# Altium schematic symbol library Display_Graphic.SchLib: 38 symbols
Pins are listed as number, name and electrical type; pins without a type are passive.

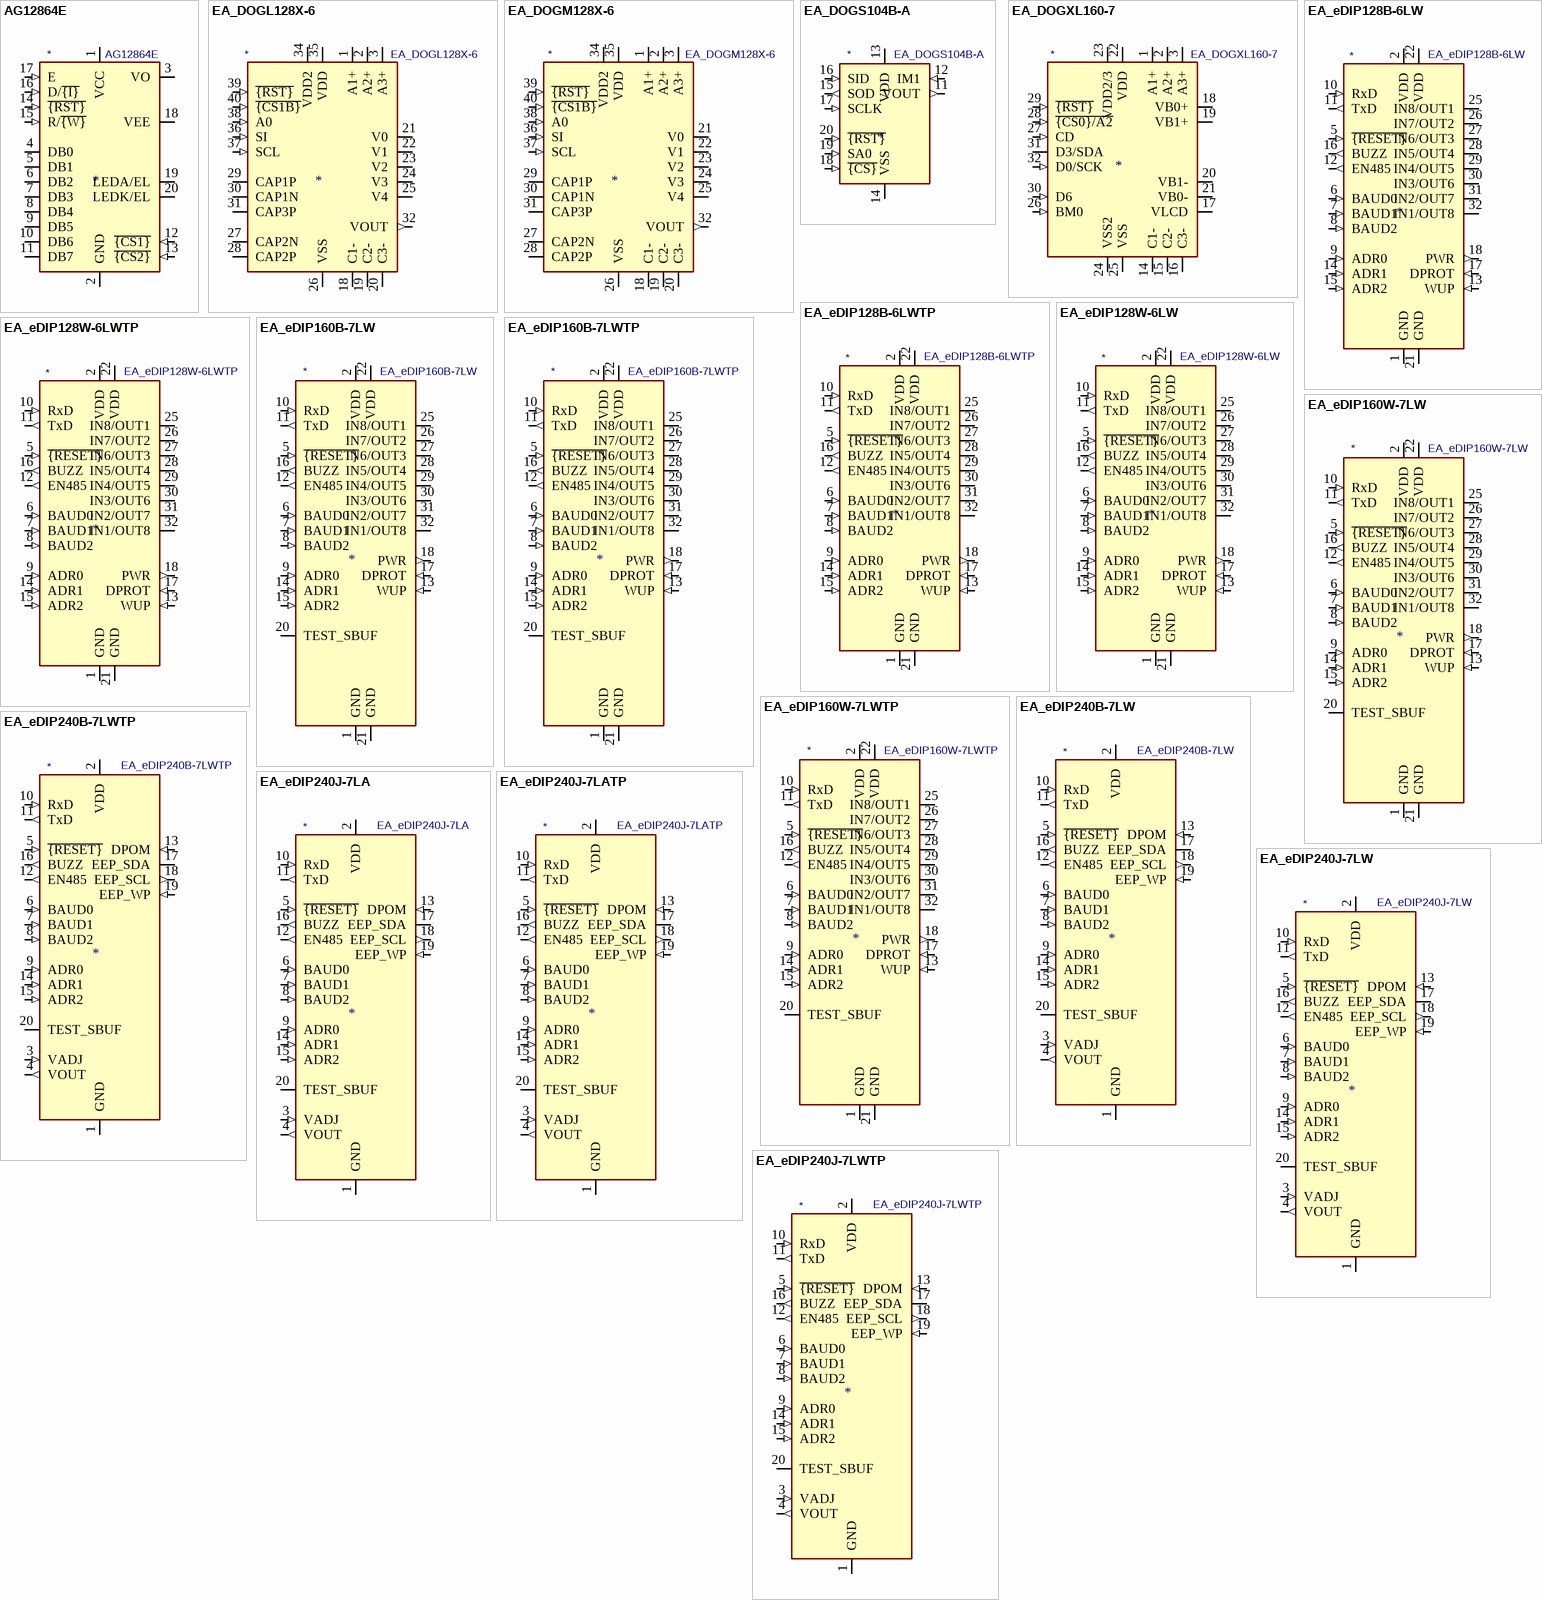
[diagram p0: symbols AG12864E to EA_eDIP240J-7LWTP]

## AG12864E
designator *  value AG12864E
ki_keywords: display LCD graphic; ki_description: Graphics Display 128x64px,  8b parallel, 1/64 Duty, 3.3V or 5V VDD; ki_fp_filters: *AG12864E*; Footprint: Display:AG12864E; Supplier: https://www.digchip.com/datasheets/parts/datasheet/1121/AG-12864E-pdf.php
footprint AG12864E
pins: 1 VCC (power), 2 GND (power), 3 VO, 4 DB0 (io), 5 DB1 (io), 6 DB2 (io), 7 DB3 (io), 8 DB4 (io), 9 DB5 (io), 10 DB6 (io), 11 DB7 (io), 12 ~{{CS1}} (in), 13 ~{{CS2}} (in), 14 ~{{RST}} (in), 15 R/~{{W}} (in), 16 D/~{{I}} (in), 17 E (in), 18 VEE, 19 LEDA/EL, 20 LEDK/EL

## EA_DOGL128X-6
designator *  value EA_DOGL128X-6
ki_keywords: display LCD graphic; ki_description: EA DOGL128X-6 Graphical Display 128x64 optional backlight SPI 3.0-3.3V; ki_fp_filters: EA*DOGL128*6*; Footprint: Display:EA_DOGL128-6; Supplier: https://www.lcd-module.com/eng/pdf/grafik/dogl128-6e.pdf
footprint EA_DOGL128-6
pins: 1 A1+ (power), 2 A2+ (power), 3 A3+ (power), 18 C1- (power), 19 C2- (power), 20 C3- (power), 21 V0, 22 V1, 23 V2, 24 V3, 25 V4, 26 VSS (power), 27 CAP2N, 28 CAP2P, 29 CAP1P, 30 CAP1N, 31 CAP3P, 32 VOUT (out), 33 VSS hidden, 34 VDD2 (power), 35 VDD (power), 36 SI (in), 37 SCL (in), 38 A0 (in), 39 ~{{RST}} (in), 40 ~{{CS1B}} (in)

## EA_DOGM128X-6
designator *  value EA_DOGM128X-6
ki_keywords: display LCD graphic; ki_description: EA DOGM128X-6 Graphical Display 128x64 optional backlight SPI 3.0-3.3V; ki_fp_filters: EA*DOGM128*6*; Footprint: Display:EA_DOGM128-6; Supplier: https://www.lcd-module.de/eng/pdf/grafik/dogm128e.pdf
footprint EA_DOGM128-6
pins: 1 A1+ (power), 2 A2+ (power), 3 A3+ (power), 18 C1- (power), 19 C2- (power), 20 C3- (power), 21 V0, 22 V1, 23 V2, 24 V3, 25 V4, 26 VSS (power), 27 CAP2N, 28 CAP2P, 29 CAP1P, 30 CAP1N, 31 CAP3P, 32 VOUT (out), 33 VSS hidden, 34 VDD2 (power), 35 VDD (power), 36 SI (in), 37 SCL (in), 38 A0 (in), 39 ~{{RST}} (in), 40 ~{{CS1B}} (in)

## EA_DOGS104B-A
designator *  value EA_DOGS104B-A
ki_keywords: display LCD graphic; ki_description: LCD 4x10 character display blue transmissive background, +3.3V VDD, I2C or SPI; ki_fp_filters: *EA*DOGS104*; Footprint: Display:EA_DOGS104X-A; Supplier: http://www.lcd-module.com/fileadmin/eng/pdf/doma/dogs104e.pdf
footprint EA_DOGS104X-A
pins: 1 NC (in) hidden, 2 NC (in) hidden, 9 NC (in) hidden, 10 NC (in) hidden, 11 VOUT (out), 12 IM1 (in), 13 VDD (power), 14 VSS (power), 15 SOD (out), 16 SID (in), 17 SCLK (in), 18 ~{{CS}} (in), 19 SA0 (in), 20 ~{{RST}} (in)

## EA_DOGXL160-7
designator *  value EA_DOGXL160-7
ki_keywords: display LCD graphic; ki_description: EA DOGXL160-7 Graphical Display 160x104 no back light I2C SPI 2.7-3.3V; ki_fp_filters: EA*DOGXL160*7*; Footprint: Display:EA_DOGXL160-7; Supplier: http://www.lcd-module.com/eng/pdf/grafik/dogxl160-7e.pdf
footprint EA_DOGXL160-7
pins: 1 A1+ (power), 2 A2+ (power), 3 A3+ (power), 14 C1- (power), 15 C2- (power), 16 C3- (power), 17 VLCD, 18 VB0+, 19 VB1+, 20 VB1-, 21 VB0-, 22 VDD (power), 23 VDD2/3 (power), 24 VSS2 (power), 25 VSS (power), 26 BM0 (in), 27 CD (in), 28 ~{{CS0}/A2} (in), 29 ~{{RST}} (in), 30 D6 (in), 31 D3/SDA (io), 32 D0/SCK (in)

## EA_eDIP128B-6LW
designator *  value EA_eDIP128B-6LW
ki_keywords: display LCD graphic; ki_description: LCD-graphical display with LED backlight blue negative, 3.3V - 5V VDD, RS-232. I2C or SPI; ki_fp_filters: *EA*eDIP128B*; Footprint: Display:EA-eDIP128B-XXX; Supplier: http://www.lcd-module.com/fileadmin/eng/pdf/grafik/edip128-6e.pdf
footprint EA-eDIP128B-XXX
pins: 1 GND (power), 2 VDD (power), 3 NC (in) hidden, 4 NC (in) hidden, 5 ~{{RESET}} (in), 6 BAUD0 (in), 7 BAUD1 (in), 8 BAUD2 (in), 9 ADR0 (in), 10 RxD (in), 11 TxD (out), 12 EN485 (out), 13 WUP (in), 14 ADR1 (in), 15 ADR2 (in), 16 BUZZ (out), 17 DPROT (in), 18 PWR (out), 19 NC (in) hidden, 21 GND (power), 22 VDD (power), 23 NC (in) hidden, 24 NC (in) hidden, 25 IN8/OUT1 (io), 26 IN7/OUT2 (io), 27 IN6/OUT3 (io), 28 IN5/OUT4 (io), 29 IN4/OUT5 (io), 30 IN3/OUT6 (io), 31 IN2/OUT7 (io), 32 IN1/OUT8 (io)

## EA_eDIP128B-6LWTP
designator *  value EA_eDIP128B-6LWTP
ki_keywords: display LCD graphic; ki_description: LCD-graphical display with LED backlight and touch panel blue negative, 3.3V - 5V VDD, RS-232. I2C or SPI; ki_fp_filters: *EA*eDIP128B*; Footprint: Display:EA-eDIP128B-XXX; Supplier: http://www.lcd-module.com/fileadmin/eng/pdf/grafik/edip128-6e.pdf
footprint EA-eDIP128B-XXX
pins: 1 GND (power), 2 VDD (power), 3 NC (in) hidden, 4 NC (in) hidden, 5 ~{{RESET}} (in), 6 BAUD0 (in), 7 BAUD1 (in), 8 BAUD2 (in), 9 ADR0 (in), 10 RxD (in), 11 TxD (out), 12 EN485 (out), 13 WUP (in), 14 ADR1 (in), 15 ADR2 (in), 16 BUZZ (out), 17 DPROT (in), 18 PWR (out), 19 NC (in) hidden, 21 GND (power), 22 VDD (power), 23 NC (in) hidden, 24 NC (in) hidden, 25 IN8/OUT1 (io), 26 IN7/OUT2 (io), 27 IN6/OUT3 (io), 28 IN5/OUT4 (io), 29 IN4/OUT5 (io), 30 IN3/OUT6 (io), 31 IN2/OUT7 (io), 32 IN1/OUT8 (io)

## EA_eDIP128W-6LW
designator *  value EA_eDIP128W-6LW
ki_keywords: display LCD graphic; ki_description: LCD-graphical display with LED backlight positive mode FSTN, 3.3V - 5V VDD, RS-232. I2C or SPI; ki_fp_filters: *EA*eDIP128B*; Footprint: Display:EA-eDIP128B-XXX; Supplier: http://www.lcd-module.com/fileadmin/eng/pdf/grafik/edip128-6e.pdf
footprint EA-eDIP128B-XXX
pins: 1 GND (power), 2 VDD (power), 3 NC (in) hidden, 4 NC (in) hidden, 5 ~{{RESET}} (in), 6 BAUD0 (in), 7 BAUD1 (in), 8 BAUD2 (in), 9 ADR0 (in), 10 RxD (in), 11 TxD (out), 12 EN485 (out), 13 WUP (in), 14 ADR1 (in), 15 ADR2 (in), 16 BUZZ (out), 17 DPROT (in), 18 PWR (out), 19 NC (in) hidden, 21 GND (power), 22 VDD (power), 23 NC (in) hidden, 24 NC (in) hidden, 25 IN8/OUT1 (io), 26 IN7/OUT2 (io), 27 IN6/OUT3 (io), 28 IN5/OUT4 (io), 29 IN4/OUT5 (io), 30 IN3/OUT6 (io), 31 IN2/OUT7 (io), 32 IN1/OUT8 (io)

## EA_eDIP128W-6LWTP
designator *  value EA_eDIP128W-6LWTP
ki_keywords: display LCD graphic; ki_description: LCD-graphical display with LED backlight and touch panel positive mode FSTN, 3.3V - 5V VDD, RS-232. I2C or SPI; ki_fp_filters: *EA*eDIP128B*; Footprint: Display:EA-eDIP128B-XXX; Supplier: http://www.lcd-module.com/fileadmin/eng/pdf/grafik/edip128-6e.pdf
footprint EA-eDIP128B-XXX
pins: 1 GND (power), 2 VDD (power), 3 NC (in) hidden, 4 NC (in) hidden, 5 ~{{RESET}} (in), 6 BAUD0 (in), 7 BAUD1 (in), 8 BAUD2 (in), 9 ADR0 (in), 10 RxD (in), 11 TxD (out), 12 EN485 (out), 13 WUP (in), 14 ADR1 (in), 15 ADR2 (in), 16 BUZZ (out), 17 DPROT (in), 18 PWR (out), 19 NC (in) hidden, 21 GND (power), 22 VDD (power), 23 NC (in) hidden, 24 NC (in) hidden, 25 IN8/OUT1 (io), 26 IN7/OUT2 (io), 27 IN6/OUT3 (io), 28 IN5/OUT4 (io), 29 IN4/OUT5 (io), 30 IN3/OUT6 (io), 31 IN2/OUT7 (io), 32 IN1/OUT8 (io)

## EA_eDIP160B-7LW
designator *  value EA_eDIP160B-7LW
ki_keywords: display LCD graphic; ki_description: LCD-graphical display 160x104 with LED backlight, blue negative, 3.3V - 5V VDD, RS-232, I2C or SPI; ki_fp_filters: *EA*eDIP160*; Footprint: Display:EA_eDIP160-XXX; Supplier: http://www.lcd-module.com/fileadmin/eng/pdf/grafik/edip160-7e.pdf
footprint EA_eDIP160-XXX
pins: 1 GND (power), 2 VDD (power), 3 NC (in) hidden, 4 NC (in) hidden, 5 ~{{RESET}} (in), 6 BAUD0 (in), 7 BAUD1 (in), 8 BAUD2 (in), 9 ADR0 (in), 10 RxD (in), 11 TxD (out), 12 EN485 (out), 13 WUP (in), 14 ADR1 (in), 15 ADR2 (in), 16 BUZZ (out), 17 DPROT (in), 18 PWR (out), 19 NC (in) hidden, 20 TEST_SBUF (oc), 21 GND (power), 22 VDD (power), 23 NC (in) hidden, 24 NC (in) hidden, 25 IN8/OUT1 (io), 26 IN7/OUT2 (io), 27 IN6/OUT3 (io), 28 IN5/OUT4 (io), 29 IN4/OUT5 (io), 30 IN3/OUT6 (io), 31 IN2/OUT7 (io), 32 IN1/OUT8 (io), 33 NC (in) hidden, 34 NC (in) hidden, 35 NC (in) hidden, 36 NC (in) hidden, 37 NC (in) hidden, 38 NC (in) hidden, 39 NC (in) hidden, 40 NC (in) hidden

## EA_eDIP160B-7LWTP
designator *  value EA_eDIP160B-7LWTP
ki_keywords: display LCD graphic; ki_description: LCD-graphical display 160x104 with LED backlight and touch panel, blue negative, 3.3V - 5V VDD, RS-232, I2C or SPI; ki_fp_filters: *EA*eDIP160*; Footprint: Display:EA_eDIP160-XXX; Supplier: http://www.lcd-module.com/fileadmin/eng/pdf/grafik/edip160-7e.pdf
footprint EA_eDIP160-XXX
pins: 1 GND (power), 2 VDD (power), 3 NC (in) hidden, 4 NC (in) hidden, 5 ~{{RESET}} (in), 6 BAUD0 (in), 7 BAUD1 (in), 8 BAUD2 (in), 9 ADR0 (in), 10 RxD (in), 11 TxD (out), 12 EN485 (out), 13 WUP (in), 14 ADR1 (in), 15 ADR2 (in), 16 BUZZ (out), 17 DPROT (in), 18 PWR (out), 19 NC (in) hidden, 20 TEST_SBUF (oc), 21 GND (power), 22 VDD (power), 23 NC (in) hidden, 24 NC (in) hidden, 25 IN8/OUT1 (io), 26 IN7/OUT2 (io), 27 IN6/OUT3 (io), 28 IN5/OUT4 (io), 29 IN4/OUT5 (io), 30 IN3/OUT6 (io), 31 IN2/OUT7 (io), 32 IN1/OUT8 (io), 33 NC (in) hidden, 34 NC (in) hidden, 35 NC (in) hidden, 36 NC (in) hidden, 37 NC (in) hidden, 38 NC (in) hidden, 39 NC (in) hidden, 40 NC (in) hidden

## EA_eDIP160W-7LW
designator *  value EA_eDIP160W-7LW
ki_keywords: display LCD graphic; ki_description: LCD-graphical display 160x104 with LED backlight, positive mode FSTN, 3.3V - 5V VDD, RS-232, I2C or SPI; ki_fp_filters: *EA*eDIP160*; Footprint: Display:EA_eDIP160-XXX; Supplier: http://www.lcd-module.com/fileadmin/eng/pdf/grafik/edip160-7e.pdf
footprint EA_eDIP160-XXX
pins: 1 GND (power), 2 VDD (power), 3 NC (in) hidden, 4 NC (in) hidden, 5 ~{{RESET}} (in), 6 BAUD0 (in), 7 BAUD1 (in), 8 BAUD2 (in), 9 ADR0 (in), 10 RxD (in), 11 TxD (out), 12 EN485 (out), 13 WUP (in), 14 ADR1 (in), 15 ADR2 (in), 16 BUZZ (out), 17 DPROT (in), 18 PWR (out), 19 NC (in) hidden, 20 TEST_SBUF (oc), 21 GND (power), 22 VDD (power), 23 NC (in) hidden, 24 NC (in) hidden, 25 IN8/OUT1 (io), 26 IN7/OUT2 (io), 27 IN6/OUT3 (io), 28 IN5/OUT4 (io), 29 IN4/OUT5 (io), 30 IN3/OUT6 (io), 31 IN2/OUT7 (io), 32 IN1/OUT8 (io), 33 NC (in) hidden, 34 NC (in) hidden, 35 NC (in) hidden, 36 NC (in) hidden, 37 NC (in) hidden, 38 NC (in) hidden, 39 NC (in) hidden, 40 NC (in) hidden

## EA_eDIP160W-7LWTP
designator *  value EA_eDIP160W-7LWTP
ki_keywords: display LCD graphic; ki_description: LCD-graphical display 160x104 with LED backlight and touch panel, positive mode FSTN, 3.3V - 5V VDD, RS-232, I2C or SPI; ki_fp_filters: *EA*eDIP160*; Footprint: Display:EA_eDIP160-XXX; Supplier: http://www.lcd-module.com/fileadmin/eng/pdf/grafik/edip160-7e.pdf
footprint EA_eDIP160-XXX
pins: 1 GND (power), 2 VDD (power), 3 NC (in) hidden, 4 NC (in) hidden, 5 ~{{RESET}} (in), 6 BAUD0 (in), 7 BAUD1 (in), 8 BAUD2 (in), 9 ADR0 (in), 10 RxD (in), 11 TxD (out), 12 EN485 (out), 13 WUP (in), 14 ADR1 (in), 15 ADR2 (in), 16 BUZZ (out), 17 DPROT (in), 18 PWR (out), 19 NC (in) hidden, 20 TEST_SBUF (oc), 21 GND (power), 22 VDD (power), 23 NC (in) hidden, 24 NC (in) hidden, 25 IN8/OUT1 (io), 26 IN7/OUT2 (io), 27 IN6/OUT3 (io), 28 IN5/OUT4 (io), 29 IN4/OUT5 (io), 30 IN3/OUT6 (io), 31 IN2/OUT7 (io), 32 IN1/OUT8 (io), 33 NC (in) hidden, 34 NC (in) hidden, 35 NC (in) hidden, 36 NC (in) hidden, 37 NC (in) hidden, 38 NC (in) hidden, 39 NC (in) hidden, 40 NC (in) hidden

## EA_eDIP240B-7LW
designator *  value EA_eDIP240B-7LW
ki_keywords: display LCD graphic; ki_description: LCD graphical display with white LED background blue negative, 240x128, +5V VDD, RS-232, I2C or SPI; ki_fp_filters: *EA*eDIP240*; Footprint: Display:EA_eDIP240-XXX; Supplier: http://www.lcd-module.com/fileadmin/eng/pdf/grafik/edip240-7e.pdf
footprint EA_eDIP240-XXX
pins: 1 GND (power), 2 VDD (power), 3 VADJ (in), 4 VOUT (out), 5 ~{{RESET}} (in), 6 BAUD0 (in), 7 BAUD1 (in), 8 BAUD2 (in), 9 ADR0 (in), 10 RxD (in), 11 TxD (out), 12 EN485 (out), 13 DPOM (in), 14 ADR1 (in), 15 ADR2 (in), 16 BUZZ (out), 17 EEP_SDA (io), 18 EEP_SCL (out), 19 EEP_WP (in), 20 TEST_SBUF (oc), 21 NC (in) hidden, 22 NC (in) hidden, 23 NC (in) hidden, 24 NC (in) hidden, 25 NC (in) hidden, 26 NC (in) hidden, 27 NC (in) hidden, 28 NC (in) hidden, 29 NC (in) hidden, 30 NC (in) hidden, 31 NC (in) hidden, 32 NC (in) hidden, 33 NC (in) hidden, 34 NC (in) hidden, 35 NC (in) hidden, 36 NC (in) hidden, 37 NC (in) hidden, 38 NC (in) hidden, 39 NC (in) hidden, 40 NC (in) hidden

## EA_eDIP240B-7LWTP
designator *  value EA_eDIP240B-7LWTP
ki_keywords: display LCD graphic; ki_description: LCD graphical display with white LED background and touch panel blue negative, 240x128, +5V VDD, RS-232, I2C or SPI; ki_fp_filters: *EA*eDIP240*; Footprint: Display:EA_eDIP240-XXX; Supplier: http://www.lcd-module.com/fileadmin/eng/pdf/grafik/edip240-7e.pdf
footprint EA_eDIP240-XXX
pins: 1 GND (power), 2 VDD (power), 3 VADJ (in), 4 VOUT (out), 5 ~{{RESET}} (in), 6 BAUD0 (in), 7 BAUD1 (in), 8 BAUD2 (in), 9 ADR0 (in), 10 RxD (in), 11 TxD (out), 12 EN485 (out), 13 DPOM (in), 14 ADR1 (in), 15 ADR2 (in), 16 BUZZ (out), 17 EEP_SDA (io), 18 EEP_SCL (out), 19 EEP_WP (in), 20 TEST_SBUF (oc), 21 NC (in) hidden, 22 NC (in) hidden, 23 NC (in) hidden, 24 NC (in) hidden, 25 NC (in) hidden, 26 NC (in) hidden, 27 NC (in) hidden, 28 NC (in) hidden, 29 NC (in) hidden, 30 NC (in) hidden, 31 NC (in) hidden, 32 NC (in) hidden, 33 NC (in) hidden, 34 NC (in) hidden, 35 NC (in) hidden, 36 NC (in) hidden, 37 NC (in) hidden, 38 NC (in) hidden, 39 NC (in) hidden, 40 NC (in) hidden

## EA_eDIP240J-7LA
designator *  value EA_eDIP240J-7LA
ki_keywords: display LCD graphic; ki_description: LCD graphical display with amber LED background blue positive mode FSTN 240x128, +5V VDD, RS-232, I2C or SPI; ki_fp_filters: *EA*eDIP240*; Footprint: Display:EA_eDIP240-XXX; Supplier: http://www.lcd-module.com/fileadmin/eng/pdf/grafik/edip240-7e.pdf
footprint EA_eDIP240-XXX
pins: 1 GND (power), 2 VDD (power), 3 VADJ (in), 4 VOUT (out), 5 ~{{RESET}} (in), 6 BAUD0 (in), 7 BAUD1 (in), 8 BAUD2 (in), 9 ADR0 (in), 10 RxD (in), 11 TxD (out), 12 EN485 (out), 13 DPOM (in), 14 ADR1 (in), 15 ADR2 (in), 16 BUZZ (out), 17 EEP_SDA (io), 18 EEP_SCL (out), 19 EEP_WP (in), 20 TEST_SBUF (oc), 21 NC (in) hidden, 22 NC (in) hidden, 23 NC (in) hidden, 24 NC (in) hidden, 25 NC (in) hidden, 26 NC (in) hidden, 27 NC (in) hidden, 28 NC (in) hidden, 29 NC (in) hidden, 30 NC (in) hidden, 31 NC (in) hidden, 32 NC (in) hidden, 33 NC (in) hidden, 34 NC (in) hidden, 35 NC (in) hidden, 36 NC (in) hidden, 37 NC (in) hidden, 38 NC (in) hidden, 39 NC (in) hidden, 40 NC (in) hidden

## EA_eDIP240J-7LATP
designator *  value EA_eDIP240J-7LATP
ki_keywords: display LCD graphic; ki_description: LCD graphical display with amber LED background and touch panel blue positive mode FSTN, 240x128, +5V VDD, RS-232, I2C or SPI; ki_fp_filters: *EA*eDIP240*; Footprint: Display:EA_eDIP240-XXX; Supplier: http://www.lcd-module.com/fileadmin/eng/pdf/grafik/edip240-7e.pdf
footprint EA_eDIP240-XXX
pins: 1 GND (power), 2 VDD (power), 3 VADJ (in), 4 VOUT (out), 5 ~{{RESET}} (in), 6 BAUD0 (in), 7 BAUD1 (in), 8 BAUD2 (in), 9 ADR0 (in), 10 RxD (in), 11 TxD (out), 12 EN485 (out), 13 DPOM (in), 14 ADR1 (in), 15 ADR2 (in), 16 BUZZ (out), 17 EEP_SDA (io), 18 EEP_SCL (out), 19 EEP_WP (in), 20 TEST_SBUF (oc), 21 NC (in) hidden, 22 NC (in) hidden, 23 NC (in) hidden, 24 NC (in) hidden, 25 NC (in) hidden, 26 NC (in) hidden, 27 NC (in) hidden, 28 NC (in) hidden, 29 NC (in) hidden, 30 NC (in) hidden, 31 NC (in) hidden, 32 NC (in) hidden, 33 NC (in) hidden, 34 NC (in) hidden, 35 NC (in) hidden, 36 NC (in) hidden, 37 NC (in) hidden, 38 NC (in) hidden, 39 NC (in) hidden, 40 NC (in) hidden

## EA_eDIP240J-7LW
designator *  value EA_eDIP240J-7LW
ki_keywords: display LCD graphic; ki_description: LCD graphical display with white LED background blue positive mode FSTN, 240x128, +5V VDD, RS-232, I2C or SPI; ki_fp_filters: *EA*eDIP240*; Footprint: Display:EA_eDIP240-XXX; Supplier: http://www.lcd-module.com/fileadmin/eng/pdf/grafik/edip240-7e.pdf
footprint EA_eDIP240-XXX
pins: 1 GND (power), 2 VDD (power), 3 VADJ (in), 4 VOUT (out), 5 ~{{RESET}} (in), 6 BAUD0 (in), 7 BAUD1 (in), 8 BAUD2 (in), 9 ADR0 (in), 10 RxD (in), 11 TxD (out), 12 EN485 (out), 13 DPOM (in), 14 ADR1 (in), 15 ADR2 (in), 16 BUZZ (out), 17 EEP_SDA (io), 18 EEP_SCL (out), 19 EEP_WP (in), 20 TEST_SBUF (oc), 21 NC (in) hidden, 22 NC (in) hidden, 23 NC (in) hidden, 24 NC (in) hidden, 25 NC (in) hidden, 26 NC (in) hidden, 27 NC (in) hidden, 28 NC (in) hidden, 29 NC (in) hidden, 30 NC (in) hidden, 31 NC (in) hidden, 32 NC (in) hidden, 33 NC (in) hidden, 34 NC (in) hidden, 35 NC (in) hidden, 36 NC (in) hidden, 37 NC (in) hidden, 38 NC (in) hidden, 39 NC (in) hidden, 40 NC (in) hidden

## EA_eDIP240J-7LWTP
designator *  value EA_eDIP240J-7LWTP
ki_keywords: display LCD graphic; ki_description: LCD graphical display with amber LED background blue positive mode FSTN, 240x128, +5V VDD, RS-232, I2C or SPI; ki_fp_filters: *EA*eDIP240*; Footprint: Display:EA_eDIP240-XXX; Supplier: http://www.lcd-module.com/fileadmin/eng/pdf/grafik/edip240-7e.pdf
footprint EA_eDIP240-XXX
pins: 1 GND (power), 2 VDD (power), 3 VADJ (in), 4 VOUT (out), 5 ~{{RESET}} (in), 6 BAUD0 (in), 7 BAUD1 (in), 8 BAUD2 (in), 9 ADR0 (in), 10 RxD (in), 11 TxD (out), 12 EN485 (out), 13 DPOM (in), 14 ADR1 (in), 15 ADR2 (in), 16 BUZZ (out), 17 EEP_SDA (io), 18 EEP_SCL (out), 19 EEP_WP (in), 20 TEST_SBUF (oc), 21 NC (in) hidden, 22 NC (in) hidden, 23 NC (in) hidden, 24 NC (in) hidden, 25 NC (in) hidden, 26 NC (in) hidden, 27 NC (in) hidden, 28 NC (in) hidden, 29 NC (in) hidden, 30 NC (in) hidden, 31 NC (in) hidden, 32 NC (in) hidden, 33 NC (in) hidden, 34 NC (in) hidden, 35 NC (in) hidden, 36 NC (in) hidden, 37 NC (in) hidden, 38 NC (in) hidden, 39 NC (in) hidden, 40 NC (in) hidden

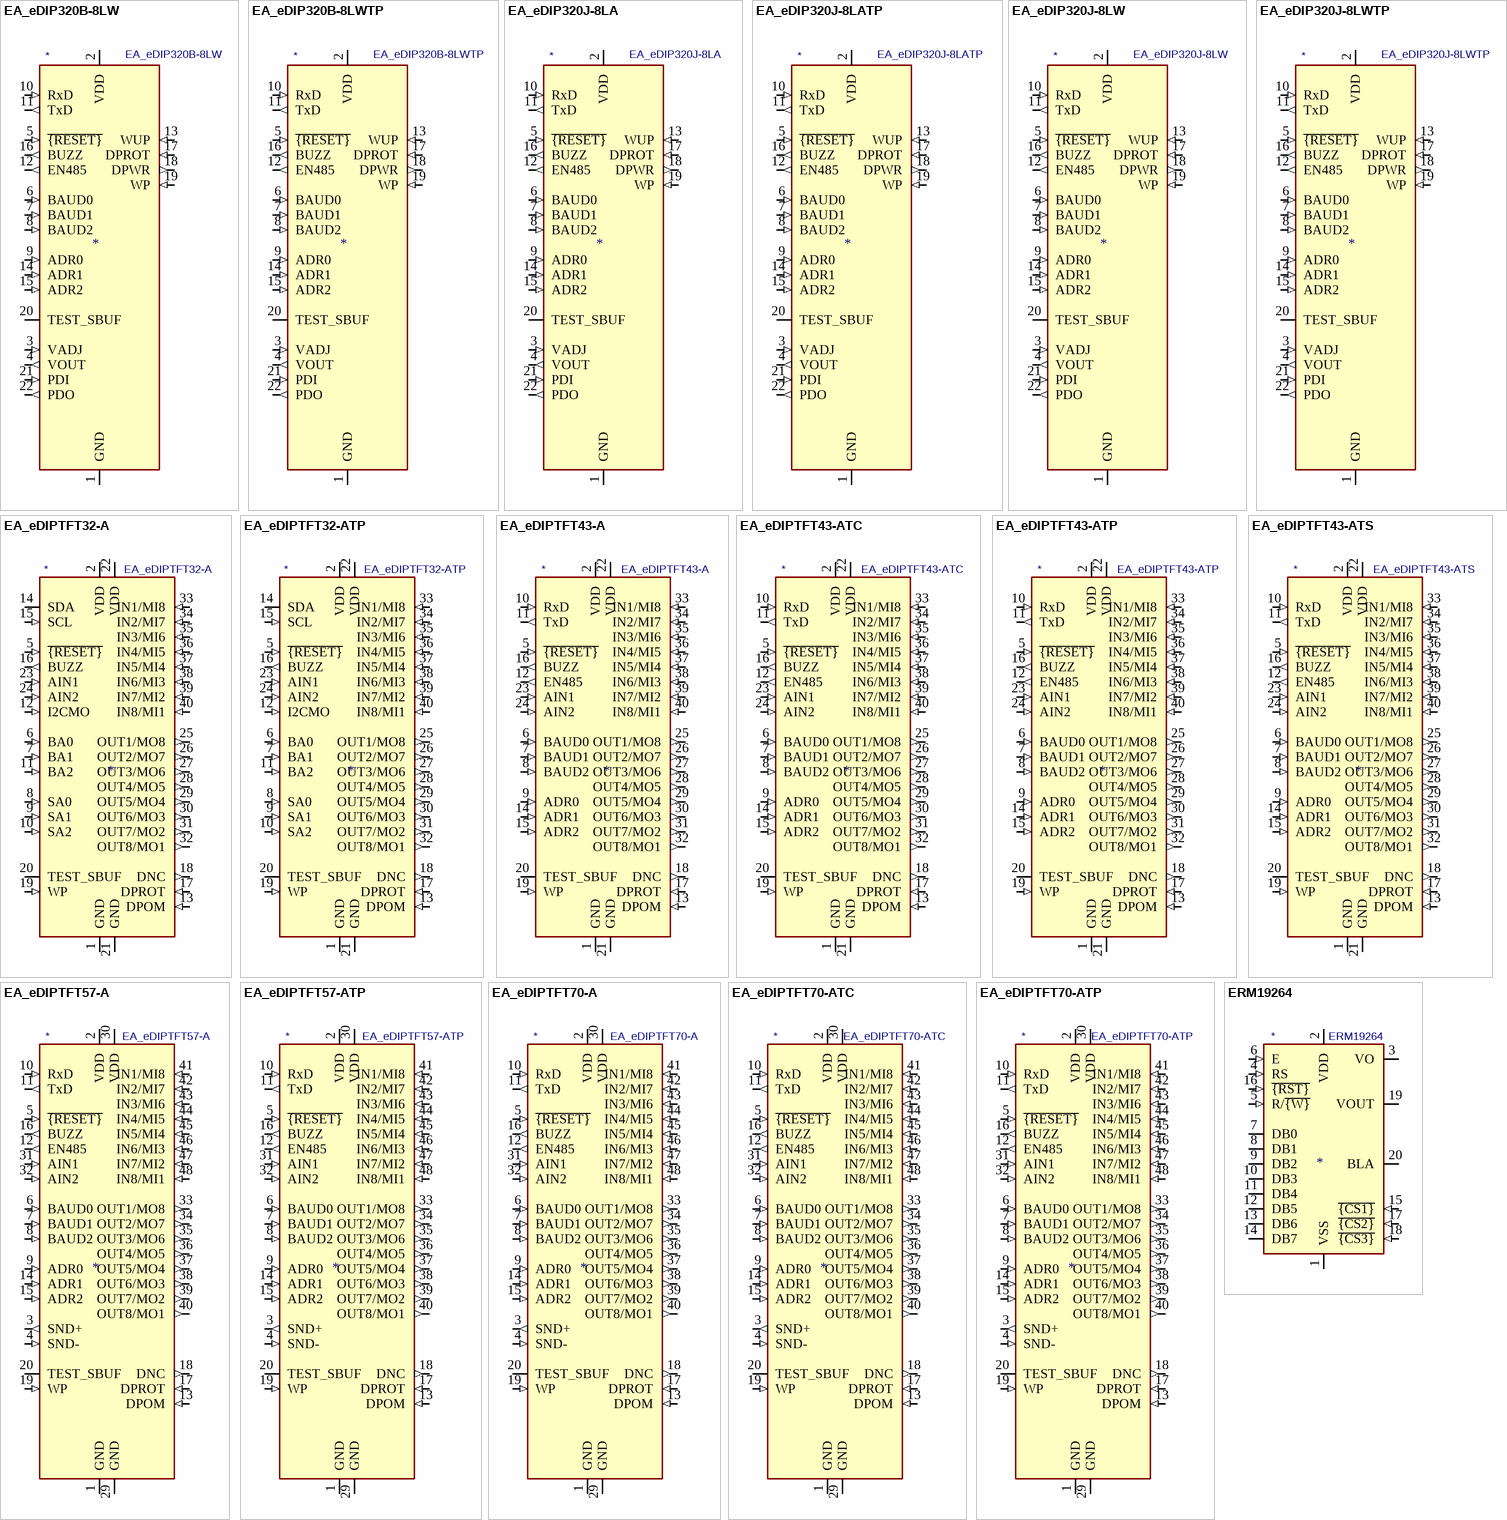
[diagram p1: symbols EA_eDIP320B-8LW to ERM19264]

## EA_eDIP320B-8LW
designator *  value EA_eDIP320B-8LW
ki_keywords: display LCD graphic; ki_description: LCD graphical display 320x240 white LED backlight blue negative, +5V VDD, RS-232, I2C or SPI; ki_fp_filters: *EA*eDIP320*; Footprint: Display:EA_eDIP320X-XXX; Supplier: http://www.lcd-module.com/fileadmin/eng/pdf/grafik/edip320-8e.pdf
footprint EA_eDIP320X-XXX
pins: 1 GND (power), 2 VDD (power), 3 VADJ (in), 4 VOUT (out), 5 ~{{RESET}} (in), 6 BAUD0 (in), 7 BAUD1 (in), 8 BAUD2 (in), 9 ADR0 (in), 10 RxD (in), 11 TxD (out), 12 EN485 (out), 13 WUP (in), 14 ADR1 (in), 15 ADR2 (in), 16 BUZZ (out), 17 DPROT (in), 18 DPWR (out), 19 WP (in), 20 TEST_SBUF (oc), 21 PDI (in), 22 PDO (out), 23 NC (in) hidden, 24 NC (in) hidden, 25 NC (in) hidden, 26 NC (in) hidden, 27 NC (in) hidden, 28 NC (in) hidden, 29 NC (in) hidden, 30 NC (in) hidden, 31 NC (in) hidden, 32 NC (in) hidden, 33 NC (in) hidden, 34 NC (in) hidden, 35 NC (in) hidden, 36 NC (in) hidden, 37 NC (in) hidden, 38 NC (in) hidden, 39 NC (in) hidden, 40 NC (in) hidden, 41 NC (in) hidden, 42 NC (in) hidden, 43 NC (in) hidden, 44 NC (in) hidden, 45 NC (in) hidden, 46 NC (in) hidden, 47 NC (in) hidden, 78 NC (in) hidden

## EA_eDIP320B-8LWTP
designator *  value EA_eDIP320B-8LWTP
ki_keywords: display LCD graphic; ki_description: LCD graphical display 320x240 white LED backlight with touch panel blue negative, +5V VDD, RS-232, I2C or SPI; ki_fp_filters: *EA*eDIP320*; Footprint: Display:EA_eDIP320X-XXX; Supplier: http://www.lcd-module.com/fileadmin/eng/pdf/grafik/edip320-8e.pdf
footprint EA_eDIP320X-XXX
pins: 1 GND (power), 2 VDD (power), 3 VADJ (in), 4 VOUT (out), 5 ~{{RESET}} (in), 6 BAUD0 (in), 7 BAUD1 (in), 8 BAUD2 (in), 9 ADR0 (in), 10 RxD (in), 11 TxD (out), 12 EN485 (out), 13 WUP (in), 14 ADR1 (in), 15 ADR2 (in), 16 BUZZ (out), 17 DPROT (in), 18 DPWR (out), 19 WP (in), 20 TEST_SBUF (oc), 21 PDI (in), 22 PDO (out), 23 NC (in) hidden, 24 NC (in) hidden, 25 NC (in) hidden, 26 NC (in) hidden, 27 NC (in) hidden, 28 NC (in) hidden, 29 NC (in) hidden, 30 NC (in) hidden, 31 NC (in) hidden, 32 NC (in) hidden, 33 NC (in) hidden, 34 NC (in) hidden, 35 NC (in) hidden, 36 NC (in) hidden, 37 NC (in) hidden, 38 NC (in) hidden, 39 NC (in) hidden, 40 NC (in) hidden, 41 NC (in) hidden, 42 NC (in) hidden, 43 NC (in) hidden, 44 NC (in) hidden, 45 NC (in) hidden, 46 NC (in) hidden, 47 NC (in) hidden, 78 NC (in) hidden

## EA_eDIP320J-8LA
designator *  value EA_eDIP320J-8LA
ki_keywords: display LCD graphic; ki_description: LCD graphical display 320x240 amber LED backlight blue positive FSTN, +5V VDD, RS-232, I2C or SPI; ki_fp_filters: *EA*eDIP320*; Footprint: Display:EA_eDIP320X-XXX; Supplier: http://www.lcd-module.com/fileadmin/eng/pdf/grafik/edip320-8e.pdf
footprint EA_eDIP320X-XXX
pins: 1 GND (power), 2 VDD (power), 3 VADJ (in), 4 VOUT (out), 5 ~{{RESET}} (in), 6 BAUD0 (in), 7 BAUD1 (in), 8 BAUD2 (in), 9 ADR0 (in), 10 RxD (in), 11 TxD (out), 12 EN485 (out), 13 WUP (in), 14 ADR1 (in), 15 ADR2 (in), 16 BUZZ (out), 17 DPROT (in), 18 DPWR (out), 19 WP (in), 20 TEST_SBUF (oc), 21 PDI (in), 22 PDO (out), 23 NC (in) hidden, 24 NC (in) hidden, 25 NC (in) hidden, 26 NC (in) hidden, 27 NC (in) hidden, 28 NC (in) hidden, 29 NC (in) hidden, 30 NC (in) hidden, 31 NC (in) hidden, 32 NC (in) hidden, 33 NC (in) hidden, 34 NC (in) hidden, 35 NC (in) hidden, 36 NC (in) hidden, 37 NC (in) hidden, 38 NC (in) hidden, 39 NC (in) hidden, 40 NC (in) hidden, 41 NC (in) hidden, 42 NC (in) hidden, 43 NC (in) hidden, 44 NC (in) hidden, 45 NC (in) hidden, 46 NC (in) hidden, 47 NC (in) hidden, 78 NC (in) hidden

## EA_eDIP320J-8LATP
designator *  value EA_eDIP320J-8LATP
ki_keywords: display LCD graphic; ki_description: LCD graphical display 320x240 amber LED backlight with touch panel blue positive mode FSTN, +5V VDD, RS-232, I2C or SPI; ki_fp_filters: *EA*eDIP320*; Footprint: Display:EA_eDIP320X-XXX; Supplier: http://www.lcd-module.com/fileadmin/eng/pdf/grafik/edip320-8e.pdf
footprint EA_eDIP320X-XXX
pins: 1 GND (power), 2 VDD (power), 3 VADJ (in), 4 VOUT (out), 5 ~{{RESET}} (in), 6 BAUD0 (in), 7 BAUD1 (in), 8 BAUD2 (in), 9 ADR0 (in), 10 RxD (in), 11 TxD (out), 12 EN485 (out), 13 WUP (in), 14 ADR1 (in), 15 ADR2 (in), 16 BUZZ (out), 17 DPROT (in), 18 DPWR (out), 19 WP (in), 20 TEST_SBUF (oc), 21 PDI (in), 22 PDO (out), 23 NC (in) hidden, 24 NC (in) hidden, 25 NC (in) hidden, 26 NC (in) hidden, 27 NC (in) hidden, 28 NC (in) hidden, 29 NC (in) hidden, 30 NC (in) hidden, 31 NC (in) hidden, 32 NC (in) hidden, 33 NC (in) hidden, 34 NC (in) hidden, 35 NC (in) hidden, 36 NC (in) hidden, 37 NC (in) hidden, 38 NC (in) hidden, 39 NC (in) hidden, 40 NC (in) hidden, 41 NC (in) hidden, 42 NC (in) hidden, 43 NC (in) hidden, 44 NC (in) hidden, 45 NC (in) hidden, 46 NC (in) hidden, 47 NC (in) hidden, 78 NC (in) hidden

## EA_eDIP320J-8LW
designator *  value EA_eDIP320J-8LW
ki_keywords: display LCD graphic; ki_description: LCD graphical display 320x240 white LED backlight blue positive mode FSTN, +5V VDD, RS-232, I2C or SPI; ki_fp_filters: *EA*eDIP320*; Footprint: Display:EA_eDIP320X-XXX; Supplier: http://www.lcd-module.com/fileadmin/eng/pdf/grafik/edip320-8e.pdf
footprint EA_eDIP320X-XXX
pins: 1 GND (power), 2 VDD (power), 3 VADJ (in), 4 VOUT (out), 5 ~{{RESET}} (in), 6 BAUD0 (in), 7 BAUD1 (in), 8 BAUD2 (in), 9 ADR0 (in), 10 RxD (in), 11 TxD (out), 12 EN485 (out), 13 WUP (in), 14 ADR1 (in), 15 ADR2 (in), 16 BUZZ (out), 17 DPROT (in), 18 DPWR (out), 19 WP (in), 20 TEST_SBUF (oc), 21 PDI (in), 22 PDO (out), 23 NC (in) hidden, 24 NC (in) hidden, 25 NC (in) hidden, 26 NC (in) hidden, 27 NC (in) hidden, 28 NC (in) hidden, 29 NC (in) hidden, 30 NC (in) hidden, 31 NC (in) hidden, 32 NC (in) hidden, 33 NC (in) hidden, 34 NC (in) hidden, 35 NC (in) hidden, 36 NC (in) hidden, 37 NC (in) hidden, 38 NC (in) hidden, 39 NC (in) hidden, 40 NC (in) hidden, 41 NC (in) hidden, 42 NC (in) hidden, 43 NC (in) hidden, 44 NC (in) hidden, 45 NC (in) hidden, 46 NC (in) hidden, 47 NC (in) hidden, 78 NC (in) hidden

## EA_eDIP320J-8LWTP
designator *  value EA_eDIP320J-8LWTP
ki_keywords: display LCD graphic; ki_description: LCD graphical display 320x240 white LED backlight with touch panel blue positive mode FSTN, +5V VDD, RS-232, I2C or SPI; ki_fp_filters: *EA*eDIP320*; Footprint: Display:EA_eDIP320X-XXX; Supplier: http://www.lcd-module.com/fileadmin/eng/pdf/grafik/edip320-8e.pdf
footprint EA_eDIP320X-XXX
pins: 1 GND (power), 2 VDD (power), 3 VADJ (in), 4 VOUT (out), 5 ~{{RESET}} (in), 6 BAUD0 (in), 7 BAUD1 (in), 8 BAUD2 (in), 9 ADR0 (in), 10 RxD (in), 11 TxD (out), 12 EN485 (out), 13 WUP (in), 14 ADR1 (in), 15 ADR2 (in), 16 BUZZ (out), 17 DPROT (in), 18 DPWR (out), 19 WP (in), 20 TEST_SBUF (oc), 21 PDI (in), 22 PDO (out), 23 NC (in) hidden, 24 NC (in) hidden, 25 NC (in) hidden, 26 NC (in) hidden, 27 NC (in) hidden, 28 NC (in) hidden, 29 NC (in) hidden, 30 NC (in) hidden, 31 NC (in) hidden, 32 NC (in) hidden, 33 NC (in) hidden, 34 NC (in) hidden, 35 NC (in) hidden, 36 NC (in) hidden, 37 NC (in) hidden, 38 NC (in) hidden, 39 NC (in) hidden, 40 NC (in) hidden, 41 NC (in) hidden, 42 NC (in) hidden, 43 NC (in) hidden, 44 NC (in) hidden, 45 NC (in) hidden, 46 NC (in) hidden, 47 NC (in) hidden, 78 NC (in) hidden

## EA_eDIPTFT32-A
designator *  value EA_eDIPTFT32-A
ki_keywords: display TFT LCD graphic; ki_description: TFT graphical display, 320x240, 16 bit colour, LED backlight, 3.3V - 5V VDD, RS-232, I2C or SPI; ki_fp_filters: *EA*eDIPTFT32*; Footprint: Display:EA_eDIPTFT32-XXX; Supplier: http://www.lcd-module.com/fileadmin/eng/pdf/grafik/ediptft43-ae.pdf
footprint EA_eDIPTFT32-XXX
pins: 1 GND (power), 2 VDD (power), 3 NC (in) hidden, 4 NC (in) hidden, 5 ~{{RESET}} (in), 6 BA0 (in), 7 BA1 (in), 8 SA0 (in), 9 SA1 (in), 10 SA2 (in), 11 BA2 (in), 12 I2CMO (in), 13 DPOM (in), 14 SDA (io), 15 SCL (in), 16 BUZZ (out), 17 DPROT (in), 18 DNC (out), 19 WP (in), 20 TEST_SBUF (io), 21 GND (power), 22 VDD (power), 23 AIN1 (in), 24 AIN2 (in), 25 OUT1/MO8 (out), 26 OUT2/MO7 (out), 27 OUT3/MO6 (out), 28 OUT4/MO5 (out), 29 OUT5/MO4 (out), 30 OUT6/MO3 (out), 31 OUT7/MO2 (out), 32 OUT8/MO1 (out), 33 IN1/MI8 (in), 34 IN2/MI7 (in), 35 IN3/MI6 (in), 36 IN4/MI5 (in), 37 IN5/MI4 (in), 38 IN6/MI3 (in), 39 IN7/MI2 (in), 40 IN8/MI1 (in)

## EA_eDIPTFT32-ATP
designator *  value EA_eDIPTFT32-ATP
ki_keywords: display TFT LCD graphic; ki_description: TFT graphical display with touch panel, 320x240, 16 bit colour, LED backlight, 3.3V - 5V VDD, RS-232, I2C or SPI; ki_fp_filters: *EA*eDIPTFT32*; Footprint: Display:EA_eDIPTFT32-XXX; Supplier: http://www.lcd-module.com/fileadmin/eng/pdf/grafik/ediptft43-ae.pdf
footprint EA_eDIPTFT32-XXX
pins: 1 GND (power), 2 VDD (power), 3 NC (in) hidden, 4 NC (in) hidden, 5 ~{{RESET}} (in), 6 BA0 (in), 7 BA1 (in), 8 SA0 (in), 9 SA1 (in), 10 SA2 (in), 11 BA2 (in), 12 I2CMO (in), 13 DPOM (in), 14 SDA (io), 15 SCL (in), 16 BUZZ (out), 17 DPROT (in), 18 DNC (out), 19 WP (in), 20 TEST_SBUF (io), 21 GND (power), 22 VDD (power), 23 AIN1 (in), 24 AIN2 (in), 25 OUT1/MO8 (out), 26 OUT2/MO7 (out), 27 OUT3/MO6 (out), 28 OUT4/MO5 (out), 29 OUT5/MO4 (out), 30 OUT6/MO3 (out), 31 OUT7/MO2 (out), 32 OUT8/MO1 (out), 33 IN1/MI8 (in), 34 IN2/MI7 (in), 35 IN3/MI6 (in), 36 IN4/MI5 (in), 37 IN5/MI4 (in), 38 IN6/MI3 (in), 39 IN7/MI2 (in), 40 IN8/MI1 (in)

## EA_eDIPTFT43-A
designator *  value EA_eDIPTFT43-A
ki_keywords: display TFT LCD graphic; ki_description: TFT graphical display, 480x272, 16 bit colour, LED backlight, 5V VDD, RS-232, I2C or SPI; ki_fp_filters: EA*eDIPTFT43*XXX*; Footprint: Display:EA_eDIPTFT43-XXX; Supplier: http://www.lcd-module.com/fileadmin/eng/pdf/grafik/ediptft43-ae.pdf
footprint EA_eDIPTFT43-XXX
pins: 1 GND (power), 2 VDD (power), 3 NC (in) hidden, 4 NC (in) hidden, 5 ~{{RESET}} (in), 6 BAUD0 (in), 7 BAUD1 (in), 8 BAUD2 (in), 9 ADR0 (in), 10 RxD (in), 11 TxD (out), 12 EN485 (out), 13 DPOM (in), 14 ADR1 (in), 15 ADR2 (in), 16 BUZZ (out), 17 DPROT (in), 18 DNC (out), 19 WP (in), 20 TEST_SBUF (io), 21 GND (power), 22 VDD (power), 23 AIN1 (in), 24 AIN2 (in), 25 OUT1/MO8 (out), 26 OUT2/MO7 (out), 27 OUT3/MO6 (out), 28 OUT4/MO5 (out), 29 OUT5/MO4 (out), 30 OUT6/MO3 (out), 31 OUT7/MO2 (out), 32 OUT8/MO1 (out), 33 IN1/MI8 (in), 34 IN2/MI7 (in), 35 IN3/MI6 (in), 36 IN4/MI5 (in), 37 IN5/MI4 (in), 38 IN6/MI3 (in), 39 IN7/MI2 (in), 40 IN8/MI1 (in)

## EA_eDIPTFT43-ATC
designator *  value EA_eDIPTFT43-ATC
ki_keywords: display TFT LCD graphic; ki_description: TFT graphical display, 480x272, 16 bit colour, LED backlight, 5V VDD, RS-232, I2C or SPI; ki_fp_filters: EA*eDIPTFT43*ATC*; Footprint: Display:EA_eDIPTFT43-ATC; Supplier: http://www.lcd-module.com/fileadmin/eng/pdf/grafik/ediptft43-ae.pdf
footprint EA_eDIPTFT43-ATC
pins: 1 GND (power), 2 VDD (power), 3 NC (in) hidden, 4 NC (in) hidden, 5 ~{{RESET}} (in), 6 BAUD0 (in), 7 BAUD1 (in), 8 BAUD2 (in), 9 ADR0 (in), 10 RxD (in), 11 TxD (out), 12 EN485 (out), 13 DPOM (in), 14 ADR1 (in), 15 ADR2 (in), 16 BUZZ (out), 17 DPROT (in), 18 DNC (out), 19 WP (in), 20 TEST_SBUF (io), 21 GND (power), 22 VDD (power), 23 AIN1 (in), 24 AIN2 (in), 25 OUT1/MO8 (out), 26 OUT2/MO7 (out), 27 OUT3/MO6 (out), 28 OUT4/MO5 (out), 29 OUT5/MO4 (out), 30 OUT6/MO3 (out), 31 OUT7/MO2 (out), 32 OUT8/MO1 (out), 33 IN1/MI8 (in), 34 IN2/MI7 (in), 35 IN3/MI6 (in), 36 IN4/MI5 (in), 37 IN5/MI4 (in), 38 IN6/MI3 (in), 39 IN7/MI2 (in), 40 IN8/MI1 (in)

## EA_eDIPTFT43-ATP
designator *  value EA_eDIPTFT43-ATP
ki_keywords: display TFT LCD graphic; ki_description: TFT graphical display with resistive touch panel, 480x272, 16 bit colour, LED backlight, 5V VDD, RS-232, I2C or SPI; ki_fp_filters: EA*eDIPTFT43*XXX*; Footprint: Display:EA_eDIPTFT43-XXX; Supplier: http://www.lcd-module.com/fileadmin/eng/pdf/grafik/ediptft43-ae.pdf
footprint EA_eDIPTFT43-XXX
pins: 1 GND (power), 2 VDD (power), 3 NC (in) hidden, 4 NC (in) hidden, 5 ~{{RESET}} (in), 6 BAUD0 (in), 7 BAUD1 (in), 8 BAUD2 (in), 9 ADR0 (in), 10 RxD (in), 11 TxD (out), 12 EN485 (out), 13 DPOM (in), 14 ADR1 (in), 15 ADR2 (in), 16 BUZZ (out), 17 DPROT (in), 18 DNC (out), 19 WP (in), 20 TEST_SBUF (io), 21 GND (power), 22 VDD (power), 23 AIN1 (in), 24 AIN2 (in), 25 OUT1/MO8 (out), 26 OUT2/MO7 (out), 27 OUT3/MO6 (out), 28 OUT4/MO5 (out), 29 OUT5/MO4 (out), 30 OUT6/MO3 (out), 31 OUT7/MO2 (out), 32 OUT8/MO1 (out), 33 IN1/MI8 (in), 34 IN2/MI7 (in), 35 IN3/MI6 (in), 36 IN4/MI5 (in), 37 IN5/MI4 (in), 38 IN6/MI3 (in), 39 IN7/MI2 (in), 40 IN8/MI1 (in)

## EA_eDIPTFT43-ATS
designator *  value EA_eDIPTFT43-ATS
ki_keywords: display TFT LCD graphic; ki_description: TFT graphical display with capacitive touch panel, 480x272, 16 bit colour, LED backlight, 5V VDD, RS-232, I2C or SPI; ki_fp_filters: EA*eDIPTFT43*XXX*; Footprint: Display:EA_eDIPTFT43-XXX; Supplier: http://www.lcd-module.com/fileadmin/eng/pdf/grafik/ediptft43-ae.pdf
footprint EA_eDIPTFT43-XXX
pins: 1 GND (power), 2 VDD (power), 3 NC (in) hidden, 4 NC (in) hidden, 5 ~{{RESET}} (in), 6 BAUD0 (in), 7 BAUD1 (in), 8 BAUD2 (in), 9 ADR0 (in), 10 RxD (in), 11 TxD (out), 12 EN485 (out), 13 DPOM (in), 14 ADR1 (in), 15 ADR2 (in), 16 BUZZ (out), 17 DPROT (in), 18 DNC (out), 19 WP (in), 20 TEST_SBUF (io), 21 GND (power), 22 VDD (power), 23 AIN1 (in), 24 AIN2 (in), 25 OUT1/MO8 (out), 26 OUT2/MO7 (out), 27 OUT3/MO6 (out), 28 OUT4/MO5 (out), 29 OUT5/MO4 (out), 30 OUT6/MO3 (out), 31 OUT7/MO2 (out), 32 OUT8/MO1 (out), 33 IN1/MI8 (in), 34 IN2/MI7 (in), 35 IN3/MI6 (in), 36 IN4/MI5 (in), 37 IN5/MI4 (in), 38 IN6/MI3 (in), 39 IN7/MI2 (in), 40 IN8/MI1 (in)

## EA_eDIPTFT57-A
designator *  value EA_eDIPTFT57-A
ki_keywords: display TFT LCD graphic; ki_description: TFT-graphical display. 640x480, LED backlight, +5V VDD, RS-232, I2C or SPI; ki_fp_filters: *EA*eDIPTFT57*; Footprint: Display:EA_eDIPTFT57-XXX; Supplier: http://www.lcd-module.com/fileadmin/eng/pdf/grafik/ediptft57-ae.pdf
footprint EA_eDIPTFT57-XXX
pins: 1 GND (power), 2 VDD (power), 3 SND+ (out), 4 SND- (in), 5 ~{{RESET}} (in), 6 BAUD0 (in), 7 BAUD1 (in), 8 BAUD2 (in), 9 ADR0 (in), 10 RxD (in), 11 TxD (out), 12 EN485 (out), 13 DPOM (in), 14 ADR1 (in), 15 ADR2 (in), 16 BUZZ (out), 17 DPROT (in), 18 DNC (out), 19 WP (in), 20 TEST_SBUF (io), 21 NC (in) hidden, 22 NC (in) hidden, 23 NC (in) hidden, 24 NC (in) hidden, 25 NC (in) hidden, 26 NC (in) hidden, 27 NC (in) hidden, 28 NC (in) hidden, 29 GND (power), 30 VDD (power), 31 AIN1 (in), 32 AIN2 (in), 33 OUT1/MO8 (out), 34 OUT2/MO7 (out), 35 OUT3/MO6 (out), 36 OUT4/MO5 (out), 37 OUT5/MO4 (out), 38 OUT6/MO3 (out), 39 OUT7/MO2 (out), 40 OUT8/MO1 (out), 41 IN1/MI8 (in), 42 IN2/MI7 (in), 43 IN3/MI6 (in), 44 IN4/MI5 (in), 45 IN5/MI4 (in), 46 IN6/MI3 (in), 47 IN7/MI2 (in), 48 IN8/MI1 (in)

## EA_eDIPTFT57-ATP
designator *  value EA_eDIPTFT57-ATP
ki_keywords: display TFT LCD graphic; ki_description: TFT-graphical display with touch panel. 640x480, LED backlight, +5V VDD, RS-232, I2C or SPI; ki_fp_filters: *EA*eDIPTFT57*; Footprint: Display:EA_eDIPTFT57-XXX; Supplier: http://www.lcd-module.com/fileadmin/eng/pdf/grafik/ediptft57-ae.pdf
footprint EA_eDIPTFT57-XXX
pins: 1 GND (power), 2 VDD (power), 3 SND+ (out), 4 SND- (in), 5 ~{{RESET}} (in), 6 BAUD0 (in), 7 BAUD1 (in), 8 BAUD2 (in), 9 ADR0 (in), 10 RxD (in), 11 TxD (out), 12 EN485 (out), 13 DPOM (in), 14 ADR1 (in), 15 ADR2 (in), 16 BUZZ (out), 17 DPROT (in), 18 DNC (out), 19 WP (in), 20 TEST_SBUF (io), 21 NC (in) hidden, 22 NC (in) hidden, 23 NC (in) hidden, 24 NC (in) hidden, 25 NC (in) hidden, 26 NC (in) hidden, 27 NC (in) hidden, 28 NC (in) hidden, 29 GND (power), 30 VDD (power), 31 AIN1 (in), 32 AIN2 (in), 33 OUT1/MO8 (out), 34 OUT2/MO7 (out), 35 OUT3/MO6 (out), 36 OUT4/MO5 (out), 37 OUT5/MO4 (out), 38 OUT6/MO3 (out), 39 OUT7/MO2 (out), 40 OUT8/MO1 (out), 41 IN1/MI8 (in), 42 IN2/MI7 (in), 43 IN3/MI6 (in), 44 IN4/MI5 (in), 45 IN5/MI4 (in), 46 IN6/MI3 (in), 47 IN7/MI2 (in), 48 IN8/MI1 (in)

## EA_eDIPTFT70-A
designator *  value EA_eDIPTFT70-A
ki_keywords: display TFT LCD graphic; ki_description: TFT-graphical display with LED background, 800x480, 16-bit colours, +5V VDD, RS-232, I2C or SPI; ki_fp_filters: *EA*eDIPTFT70*XXX*; Footprint: Display:EA_eDIPTFT70-XXX; Supplier: http://www.lcd-module.com/fileadmin/eng/pdf/grafik/ediptft70-ae.pdf
footprint EA_eDIPTFT70-XXX
pins: 1 GND (power), 2 VDD (power), 3 SND+ (out), 4 SND- (in), 5 ~{{RESET}} (in), 6 BAUD0 (in), 7 BAUD1 (in), 8 BAUD2 (in), 9 ADR0 (in), 10 RxD (in), 11 TxD (out), 12 EN485 (out), 13 DPOM (in), 14 ADR1 (in), 15 ADR2 (in), 16 BUZZ (out), 17 DPROT (in), 18 DNC (out), 19 WP (in), 20 TEST_SBUF (io), 21 NC (in) hidden, 22 NC (in) hidden, 23 NC (in) hidden, 24 NC (in) hidden, 25 NC (in) hidden, 26 NC (in) hidden, 27 NC (in) hidden, 28 NC (in) hidden, 29 GND (power), 30 VDD (power), 31 AIN1 (in), 32 AIN2 (in), 33 OUT1/MO8 (out), 34 OUT2/MO7 (out), 35 OUT3/MO6 (out), 36 OUT4/MO5 (out), 37 OUT5/MO4 (out), 38 OUT6/MO3 (out), 39 OUT7/MO2 (out), 40 OUT8/MO1 (out), 41 IN1/MI8 (in), 42 IN2/MI7 (in), 43 IN3/MI6 (in), 44 IN4/MI5 (in), 45 IN5/MI4 (in), 46 IN6/MI3 (in), 47 IN7/MI2 (in), 48 IN8/MI1 (in)

## EA_eDIPTFT70-ATC
designator *  value EA_eDIPTFT70-ATC
ki_keywords: display TFT LCD graphic; ki_description: TFT-graphical display with LED background and capacitive touch panel, 800x480, 16-bit colours, +5V VDD, RS-232, I2C or SPI; ki_fp_filters: *EA*eDIPTFT70*ATC*; Footprint: Display:EA_eDIPTFT70-ATC; Supplier: http://www.lcd-module.com/fileadmin/eng/pdf/grafik/ediptft70-ae.pdf
footprint EA_eDIPTFT70-ATC
pins: 1 GND (power), 2 VDD (power), 3 SND+ (out), 4 SND- (in), 5 ~{{RESET}} (in), 6 BAUD0 (in), 7 BAUD1 (in), 8 BAUD2 (in), 9 ADR0 (in), 10 RxD (in), 11 TxD (out), 12 EN485 (out), 13 DPOM (in), 14 ADR1 (in), 15 ADR2 (in), 16 BUZZ (out), 17 DPROT (in), 18 DNC (out), 19 WP (in), 20 TEST_SBUF (io), 21 NC (in) hidden, 22 NC (in) hidden, 23 NC (in) hidden, 24 NC (in) hidden, 25 NC (in) hidden, 26 NC (in) hidden, 27 NC (in) hidden, 28 NC (in) hidden, 29 GND (power), 30 VDD (power), 31 AIN1 (in), 32 AIN2 (in), 33 OUT1/MO8 (out), 34 OUT2/MO7 (out), 35 OUT3/MO6 (out), 36 OUT4/MO5 (out), 37 OUT5/MO4 (out), 38 OUT6/MO3 (out), 39 OUT7/MO2 (out), 40 OUT8/MO1 (out), 41 IN1/MI8 (in), 42 IN2/MI7 (in), 43 IN3/MI6 (in), 44 IN4/MI5 (in), 45 IN5/MI4 (in), 46 IN6/MI3 (in), 47 IN7/MI2 (in), 48 IN8/MI1 (in)

## EA_eDIPTFT70-ATP
designator *  value EA_eDIPTFT70-ATP
ki_keywords: display TFT LCD graphic; ki_description: TFT-graphical display with LED background, 800x480, 16-bit colours, +5V VDD, RS-232, I2C or SPI; ki_fp_filters: *EA*eDIPTFT70*XXX*; Footprint: Display:EA_eDIPTFT70-XXX; Supplier: http://www.lcd-module.com/fileadmin/eng/pdf/grafik/ediptft70-ae.pdf
footprint EA_eDIPTFT70-XXX
pins: 1 GND (power), 2 VDD (power), 3 SND+ (out), 4 SND- (in), 5 ~{{RESET}} (in), 6 BAUD0 (in), 7 BAUD1 (in), 8 BAUD2 (in), 9 ADR0 (in), 10 RxD (in), 11 TxD (out), 12 EN485 (out), 13 DPOM (in), 14 ADR1 (in), 15 ADR2 (in), 16 BUZZ (out), 17 DPROT (in), 18 DNC (out), 19 WP (in), 20 TEST_SBUF (io), 21 NC (in) hidden, 22 NC (in) hidden, 23 NC (in) hidden, 24 NC (in) hidden, 25 NC (in) hidden, 26 NC (in) hidden, 27 NC (in) hidden, 28 NC (in) hidden, 29 GND (power), 30 VDD (power), 31 AIN1 (in), 32 AIN2 (in), 33 OUT1/MO8 (out), 34 OUT2/MO7 (out), 35 OUT3/MO6 (out), 36 OUT4/MO5 (out), 37 OUT5/MO4 (out), 38 OUT6/MO3 (out), 39 OUT7/MO2 (out), 40 OUT8/MO1 (out), 41 IN1/MI8 (in), 42 IN2/MI7 (in), 43 IN3/MI6 (in), 44 IN4/MI5 (in), 45 IN5/MI4 (in), 46 IN6/MI3 (in), 47 IN7/MI2 (in), 48 IN8/MI1 (in)

## ERM19264
designator *  value ERM19264
ki_keywords: display LCD graphic; ki_description: Graphics Display 192x64px,  8b parallel, 1/64 Duty, 3.3V or 5V VDD; ki_fp_filters: ERM19264*; Footprint: Display:ERM19264; Supplier: https://www.buydisplay.com/download/manual/ERM19264-1_Series_Datasheet.pdf
footprint ERM19264
pins: 1 VSS (power), 2 VDD (power), 3 VO, 4 RS (in), 5 R/~{{W}} (in), 6 E (in), 7 DB0 (io), 8 DB1 (io), 9 DB2 (io), 10 DB3 (io), 11 DB4 (io), 12 DB5 (io), 13 DB6 (io), 14 DB7 (io), 15 ~{{CS1}} (in), 16 ~{{RST}} (in), 17 ~{{CS2}} (in), 18 ~{{CS3}} (in), 19 VOUT, 20 BLA

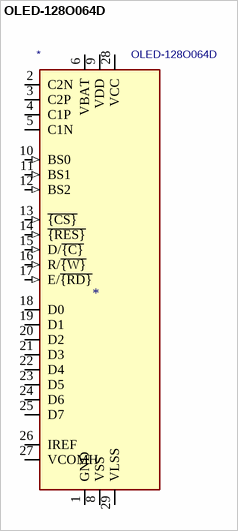
[diagram p2: symbol OLED-128O064D]

## OLED-128O064D
designator *  value OLED-128O064D
ki_keywords: display oled; ki_description: OLED display 128x64; ki_fp_filters: OLED?128O064D*; Footprint: Display:OLED-128O064D; Supplier: https://www.vishay.com/docs/37902/oled128o064dbpp3n00000.pdf
footprint OLED-128O064D
pins: 1 GND (power), 2 C2N, 3 C2P, 4 C1P, 5 C1N, 6 VBAT (power), 7 NC (in) hidden, 8 VSS (power), 9 VDD (power), 10 BS0 (in), 11 BS1 (in), 12 BS2 (in), 13 ~{{CS}} (in), 14 ~{{RES}} (in), 15 D/~{{C}} (in), 16 R/~{{W}} (in), 17 E/~{{RD}} (in), 18 D0 (io), 19 D1 (io), 20 D2 (io), 21 D3 (io), 22 D4 (io), 23 D5 (io), 24 D6 (io), 25 D7 (io), 26 IREF, 27 VCOMH, 28 VCC (power), 29 VLSS (power), 30 GND hidden